# Altium schematic symbol library 434133025816.SchLib: 1 symbol
Pins are listed as number, name and electrical type; pins without a type are passive.

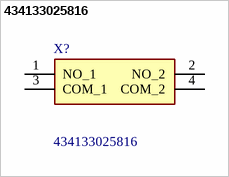
[diagram p0: symbol 434133025816]

## 434133025816
designator X?
WS-TASV Tact Switch 4.2*3.2mm vertical type, J-Bend SMT, height 2.5mm, black actuator, 160gf, T&R; Manufacturer_Name: Wurth Elektronik; Manufacturer_Part_Number: 434133025816; Mouser Part Number: 710-434133025816; Mouser Price/Stock: https://www.mouser.co.uk/ProductDetail/Wurth-Elektronik/434133025816?qs=sPbYRqrBIVmKpJ9kaO4kMw%3D%3D; Arrow Part Number: *; Arrow Price/Stock: *; Datasheet Link: https://www.we-online.com/components/products/download/3D_4341x30258x6+%28rev1%29.pdf; Geometry.Height: 2.5mm
footprint 434133025816
pins: 1 NO_1, 2 NO_2, 3 COM_1, 4 COM_2